# Altium footprint library Lund_Footprints.PcbLib: 25 footprints (part 1 of 2)
Each footprint in its own frame and in the unit in brackets; x right, y up, seen from the top. Pads: shape width x height; smd on the part's side, far side on the other; paste and mask are expansions set on the pad; w line width, h text height; cw(c..) or ccw(c..) is an arc to the next point about the centre after c.
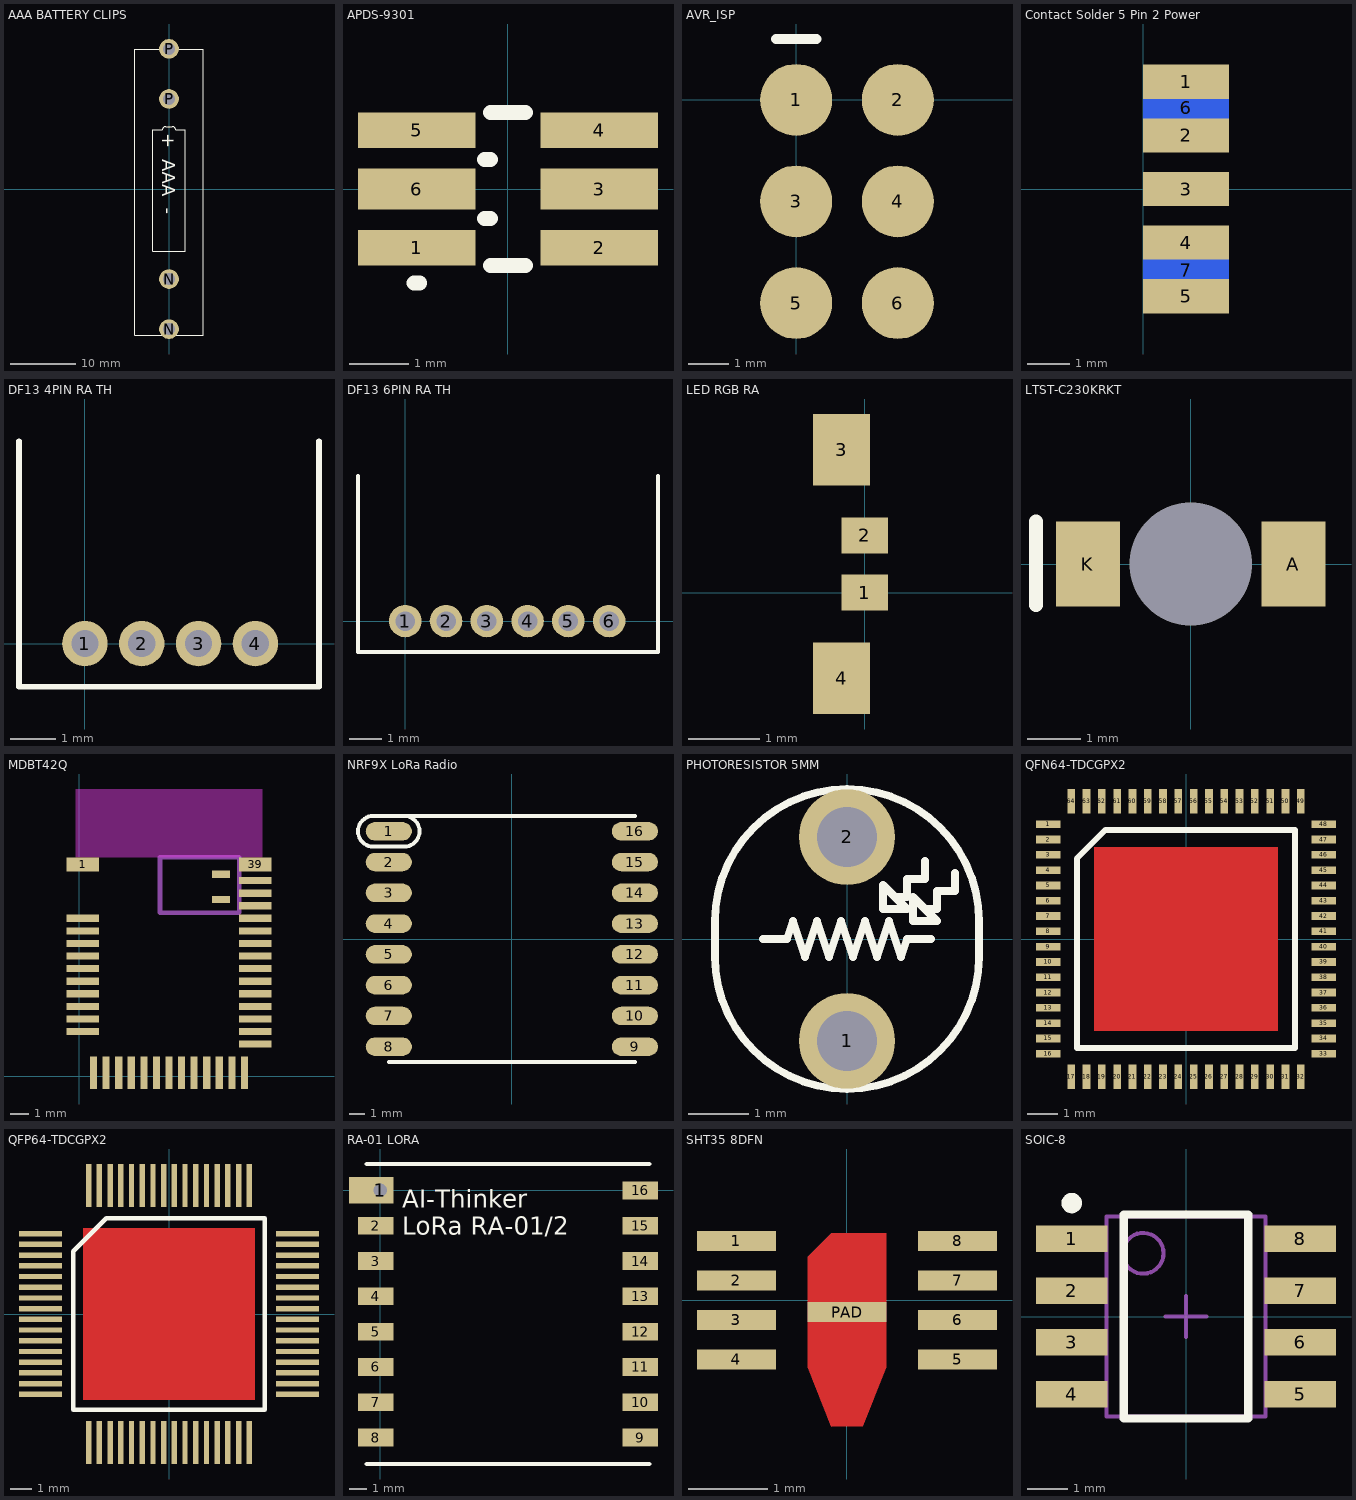
[diagram p0: the footprints below, top view; thin cyan lines are the x and y axes]

## AAA BATTERY CLIPS [mm] "Keystone BK-82"
pads (4):
  round 3 hole 1.82: N(0,-21.336) N(0,-13.716) P(0,13.716) P(0,21.336)
Top Overlay:
  lines w0.127: -5.25,-22.25 -5.25,21.25 -1.25,21.25 -1.25,21.75 cw(c-0.75,21.75) -0.75,22.25 0.75,22.25 cw(c0.75,21.75) 1.25,21.75 1.25,21.25 5.25,21.25 5.25,-22.25 -5.25,-22.25 ; -2.5,-9.5 -2.5,9 -1,9 cw(c-0.5,9) -0.5,9.5 0.5,9.5 cw(c0.5,9) 1,9 2.5,9 2.5,-9.5 -2.5,-9.5
  text "+  AAA  -" at -1,8.5 h2
3D body "BK-82.STEP": height 12.85, standoff -3.91, extent -5.207,13.65 5.207,23.048
3D body "BK-82.STEP": height 12.85, standoff -3.91, extent -5.207,-23.048 5.207,-13.65

## APDS-9301 [mm] "I2C PHOTO SENSOR 6CHIPLED"
pads (6):
  rect 2x0.6 smd: 1(-1.55,-1) 2(1.55,-1) 4(1.55,1) 5(-1.55,1)
  rect 2x0.7 smd: 3(1.55,0) 6(-1.55,0)
Top Overlay:
  lines w0.254: -1.6,-1.6 -1.5,-1.6 ; -0.4,-0.5 -0.3,-0.5 ; -0.4,0.5 -0.3,0.5 ; -0.3,-1.3 0.3,-1.3 ; -0.3,1.3 0.3,1.3
3D body: height 0.55, standoff 0.18, extent -1.3,-1.1 1.3,1.1
3D body: height 0.25, standoff 0.18, extent -1.2,-0.5 1.2,0.5
3D body: height 0.18, standoff 0, extent -1.3,-1.1 1.3,1.1

## AVR_ISP [mm] "AVR_ISP POGO CONNECTOR"
pads (6):
  round 1.8 smd: 1(0,0) 2(2.54,0) 3(0,-2.54) 4(2.54,-2.54) 5(0,-5.08) 6(2.54,-5.08)
Top Overlay:
  lines w0.254: -0.508,1.524 0.508,1.524

## Contact Solder 5 Pin 2 Power [mm]
pads (7):
  rect 2x0.8 smd: 1(1,2.5) 2(1,1.25) 3(1,0) 4(1,-1.25) 5(1,-2.5)
  rect 2x1.6 smd far side: 6(1,1.9) 7(1,-1.9)

## DF13 4PIN RA TH [mm] "4 pin 1.25mm pitch DF13 right angle through hole connector"
pads (4):
  round 1 hole 0.6: 1(0,0) 2(1.25,0) 3(2.5,0) 4(3.75,0)
Top Overlay:
  lines w0.127: -1.45,4.45 -1.45,2.15 -1.45,-0.95 5.15,-0.95 5.15,4.45
3D body "DF13-4P-1.25DS.stp": height 3.58, standoff -2.32, extent -1.45,-0.95 5.2,4.45

## DF13 6PIN RA TH [mm] "6 pin 1.25mm pitch DF13 right angle through hole connector"
pads (6):
  round 1 hole 0.6: 1(0,0) 2(1.25,0) 3(2.5,0) 4(3.75,0) 5(5,0) 6(6.25,0)
Top Overlay:
  lines w0.127: -1.45,4.45 -1.45,2.15 -1.45,-0.95 7.75,-0.95 7.75,4.45
3D body "DF13-6P-1.25DS.stp": height 3.68, standoff -2.22, extent -1.425,-0.925 7.725,4.475

## LED RGB RA [mm] "LED RGB RA OVSRRGBCC3"
pads (4):
  rect 0.65x0.5 smd: 1(0,0) 2(0,0.8)
  rect 0.8x1 smd: 3(-0.325,2) 4(-0.325,-1.2)
3D body: height 1, standoff 0, extent -0.75,-1.2 -0.25,2
3D body: height 1, standoff 0, extent -1.75,-0.6 -0.75,1.4

## LTST-C230KRKT [mm] "LED Bottom Entry"
pads (3):
  rect 1.2x1.6 smd: A(1.925,0) K(-1.925,0)
  round 0 hole 2.3 unplated: ""(0,0)
Top Overlay:
  lines w0.254: -2.9,-0.775 -2.9,0.8
3D body: height 0, standoff -0.9, extent -0.75,-0.8 0.75,0.8
3D body: height 0.25, standoff 0, extent -1.6,-0.8 1.6,0.8

## MDBT42Q [mm] "MDBT42Q BT 5.0 Module"
height 2.2
pads (41):
  rect 1.8x0.8 smd: 1(0.2,11.8) 39(9.8,11.8)
  rect 1.8x0.4 smd: 2(0.2,8.8) 3(0.2,8.1) 4(0.2,7.4) 5(0.2,6.7) 6(0.2,6) 7(0.2,5.3) 8(0.2,4.6) 9(0.2,3.9) 10(0.2,3.2) 11(0.2,2.5) 25(9.8,1.8) 26(9.8,2.5) 27(9.8,3.2) 28(9.8,3.9) 29(9.8,4.6) 30(9.8,5.3) 31(9.8,6) 32(9.8,6.7) 33(9.8,7.4) 34(9.8,8.1) 35(9.8,8.8) 36(9.8,9.5) 37(9.8,10.2) 38(9.8,10.9)
  rect 0.4x1.8 smd: 12(0.8,0.2) 13(1.5,0.2) 14(2.2,0.2) 15(2.9,0.2) 16(3.6,0.2) 17(4.3,0.2) 18(5,0.2) 19(5.7,0.2) 20(6.4,0.2) 21(7.1,0.2) 22(7.8,0.2) 23(8.5,0.2) 24(9.2,0.2)
  rect 1x0.4 smd: 40(7.9,11.25) 41(7.9,9.85)
Keep-Out Layer:
  rectangle: -0.2,12.2 10.2,16
Mechanical 1:
  lines w0.254: 4.5,9.1 8.9,9.1 8.9,12.2 4.5,12.2 4.5,9.1
3D body: height 2.2, standoff 0, extent 0,0 10,16

## NRF9X LoRa Radio [mm] "Nordic NRF Series Lora Radio"
pads (16):
  oval 3x1.2 smd: 1(-8,7) 2(-8,5) 3(-8,3) 4(-8,1) 5(-8,-1) 6(-8,-3) 7(-8,-5) 8(-8,-7) 9(8,-7) 10(8,-5) 11(8,-3) 12(8,-1) 13(8,1) 14(8,3) 15(8,5) 16(8,7)
Top Overlay:
  lines w0.254: -8,-8 8,-8 ; -8,8 8,8 ; -9,8 ccw(c-9,7) -10,7 ccw(c-9,7) -9,6 -7,6 ccw(c-7,7) -6,7 ccw(c-7,7) -7,8 -9,8 ; -9,8 -9,8

## PHOTORESISTOR 5MM [mm] "5mm standard footprint for CdS(e) photoresistor"
pads (2):
  round 1.6 hole 1: 1(0,-1.7) 2(0,1.7)
Top Overlay:
  lines w0.127: -1.4,0 -1,0 -0.9,0.3 -0.7,-0.3 -0.5,0.3 -0.3,-0.3 -0.1,0.3 0,0 0.1,-0.3 0.3,0.3 0.5,-0.3 0.7,0.3 0.9,-0.3 1,0 1.4,0 ; 0.8,0.7 1,0.7 1,1 1.3,1 1.3,1.3 ; 1.8,1.1 1.8,0.8 1.5,0.8 1.5,0.5 1.3,0.5 ; 1.3,0.5 1.5,0.3 1.1,0.3 1.1,0.7 1.3,0.5 ; -2.2,-0.3 ccw(c0,-0.3) 0,-2.5 ccw(c0,-0.3) 2.2,-0.3 2.2,0.3 ccw(c0,0.3) 0,2.5 ccw(c0,0.3) -2.2,0.3 -2.2,-0.3 ; 0.6,0.5 0.6,0.8 0.6,0.9 1,0.5 0.6,0.5
3D body: height 2.4, standoff 0, extent -2.2,-2.5 2.2,2.5
3D body: height 0, standoff -20, extent -0.248,1.451 0.25,1.95
3D body: height 0, standoff -20, extent -0.248,-1.949 0.25,-1.45

## QFN64-TDCGPX2 [mm] "QFN64-TDCGPX2"
height 0.9
pads (64):
  rect 0.8x0.25 smd: 1(-4.5,3.75) 2(-4.5,3.25) 3(-4.5,2.75) 4(-4.5,2.25) 5(-4.5,1.75) 6(-4.5,1.25) 7(-4.5,0.75) 8(-4.5,0.25) 9(-4.5,-0.25) 10(-4.5,-0.75) 11(-4.5,-1.25) 12(-4.5,-1.75) 13(-4.5,-2.25) 14(-4.5,-2.75) 15(-4.5,-3.25) 16(-4.5,-3.75) 33(4.5,-3.75) 34(4.5,-3.25) 35(4.5,-2.75) 36(4.5,-2.25) 37(4.5,-1.75) 38(4.5,-1.25) 39(4.5,-0.75) 40(4.5,-0.25) 41(4.5,0.25) 42(4.5,0.75) 43(4.5,1.25) 44(4.5,1.75) 45(4.5,2.25) 46(4.5,2.75) 47(4.5,3.25) 48(4.5,3.75)
  rect 0.25x0.8 smd: 17(-3.75,-4.5) 18(-3.25,-4.5) 19(-2.75,-4.5) 20(-2.25,-4.5) 21(-1.75,-4.5) 22(-1.25,-4.5) 23(-0.75,-4.5) 24(-0.25,-4.5) 25(0.25,-4.5) 26(0.75,-4.5) 27(1.25,-4.5) 28(1.75,-4.5) 29(2.25,-4.5) 30(2.75,-4.5) 31(3.25,-4.5) 32(3.75,-4.5) 49(3.75,4.5) 50(3.25,4.5) 51(2.75,4.5) 52(2.25,4.5) 53(1.75,4.5) 54(1.25,4.5) 55(0.75,4.5) 56(0.25,4.5) 57(-0.25,4.5) 58(-0.75,4.5) 59(-1.25,4.5) 60(-1.75,4.5) 61(-2.25,4.5) 62(-2.75,4.5) 63(-3.25,4.5) 64(-3.75,4.5)
Top Layer:
  rectangle: -3,-3 3,3
Top Overlay:
  lines w0.2: -3.565,-3.565 -3.565,2.63 -2.63,3.565 3.565,3.565 3.565,-3.565 -3.565,-3.565
Top Paste:
  rectangle: -2.5,-2.5 -0.5,-0.5
  rectangle: 0.5,-2.5 2.5,-0.5
  rectangle: 0.5,0.5 2.5,2.5
  rectangle: -2.5,0.5 -0.5,2.5
Top Solder:
  rectangle: -3,-3 3,3
3D body: height 0.9, standoff 0, extent -4.5,-4.5 4.5,4.5

## QFP64-TDCGPX2 [mm] "QFP64 W EXTRA LONG LEADS"
pads (64):
  rect 2x0.25 smd: 1(-6,3.75) 2(-6,3.25) 3(-6,2.75) 4(-6,2.25) 5(-6,1.75) 6(-6,1.25) 7(-6,0.75) 8(-6,0.25) 9(-6,-0.25) 10(-6,-0.75) 11(-6,-1.25) 12(-6,-1.75) 13(-6,-2.25) 14(-6,-2.75) 15(-6,-3.25) 16(-6,-3.75) 33(6,-3.75) 34(6,-3.25) 35(6,-2.75) 36(6,-2.25) 37(6,-1.75) 38(6,-1.25) 39(6,-0.75) 40(6,-0.25) 41(6,0.25) 42(6,0.75) 43(6,1.25) 44(6,1.75) 45(6,2.25) 46(6,2.75) 47(6,3.25) 48(6,3.75)
  rect 0.25x2 smd: 17(-3.75,-6) 18(-3.25,-6) 19(-2.75,-6) 20(-2.25,-6) 21(-1.75,-6) 22(-1.25,-6) 23(-0.75,-6) 24(-0.25,-6) 25(0.25,-6) 26(0.75,-6) 27(1.25,-6) 28(1.75,-6) 29(2.25,-6) 30(2.75,-6) 31(3.25,-6) 32(3.75,-6) 49(3.75,6) 50(3.25,6) 51(2.75,6) 52(2.25,6) 53(1.75,6) 54(1.25,6) 55(0.75,6) 56(0.25,6) 57(-0.25,6) 58(-0.75,6) 59(-1.25,6) 60(-1.75,6) 61(-2.25,6) 62(-2.75,6) 63(-3.25,6) 64(-3.75,6)
Top Layer:
  region: -4,4 4,4 4,-4 -4,-4
Top Overlay:
  lines w0.2: -4.465,-4.465 4.465,-4.465 4.465,4.465 -2.93,4.465 -4.465,2.93 -4.465,-4.465
Top Paste:
  rectangle: -3.5,-3.5 -0.5,-0.5
  rectangle: 0.5,-3.5 3.5,-0.5
  rectangle: 0.5,0.5 3.5,3.5
  rectangle: -3.5,0.5 -0.5,3.5
Top Solder:
  rectangle: -4,-4 4,4
3D body: height 1.2, standoff 0, extent -5,-5 5,5

## RA-01 LORA [mm] "RA lora module with wire antenna"
pads (16):
  rect 2.5x1.5 hole 0.762 copper offset -0.5,0: 1(0,0)
  rect 2x1 smd: 2(-0.25,-2) 3(-0.25,-4) 4(-0.25,-6) 5(-0.25,-8) 6(-0.25,-10) 7(-0.25,-12) 8(-0.25,-14) 9(14.75,-14) 10(14.75,-12) 11(14.75,-10) 12(14.75,-8) 13(14.75,-6) 14(14.75,-4) 15(14.75,-2) 16(14.75,0)
Top Overlay:
  lines w0.254: -0.75,-15.5 15.25,-15.5 ; -0.75,1.5 15.25,1.5
  text "AI-Thinker / LoRa RA-01/2" at 1.25,-2.5 h1.02
3D body: height 2, standoff 0, extent -0.75,-15.5 15.25,1.5

## SHT35 8DFN [mm] "8DFN W PAD FOR SHT35 HUMIDITY SENSOR"
pads (9):
  rect 1x0.25 smd: 1(-1.4,0.75) 2(-1.4,0.25) 3(-1.4,-0.25) 4(-1.4,-0.75) 5(1.4,-0.75) 6(1.4,-0.25) 7(1.4,0.25) 8(1.4,0.75) PAD(0,-0.15)
Top Layer:
  region: -0.5,-0.85 -0.2,-1.6 0.2,-1.6 0.5,-0.85 0.5,0.85 -0.2,0.85 -0.5,0.55
3D body: height 1, standoff 0.9, extent -1,-1.05 1,1.05
3D body: height 0.9, standoff 0, extent -1.2,-1.2 1.2,1.2

## SOIC-8 [mm] "SOIC, 8-Leads, Body 4.9x3.9mm, Pitch 1.27mm"
height 1.75
pads (8):
  rect 1.75x0.65 smd: 1(-2.8,1.905) 2(-2.8,0.635) 3(-2.8,-0.635) 4(-2.8,-1.905) 5(2.8,-1.905) 6(2.8,-0.635) 7(2.8,0.635) 8(2.8,1.905)
Top Overlay:
  circle w0.25: c-2.8,2.78 r0.125
  lines w0.2: -1.525,-2.5 -1.525,2.5 1.525,2.5 1.525,-2.5 -1.525,-2.5
Mechanical 13:
  circle w0.1: c-1.05,1.55 r0.5
  lines w0.1: -1.95,-2.45 1.95,-2.45 1.95,2.45 -1.95,2.45 -1.95,-2.45
Mechanical 15:
  lines w0.1: -0.5,0 0.5,0 ; 0,-0.5 0,0.5
3D body: height 1.75, standoff 0.1, extent -1.95,-2.45 1.95,2.45